# Altium footprint library SOIC127P600X170-9N.PcbLib: 1 footprints
Each footprint in its own frame and in the unit in brackets; x right, y up, seen from the top. Pads: shape width x height; smd on the part's side, far side on the other; paste and mask are expansions set on the pad; w line width, h text height; cw(c..) or ccw(c..) is an arc to the next point about the centre after c.
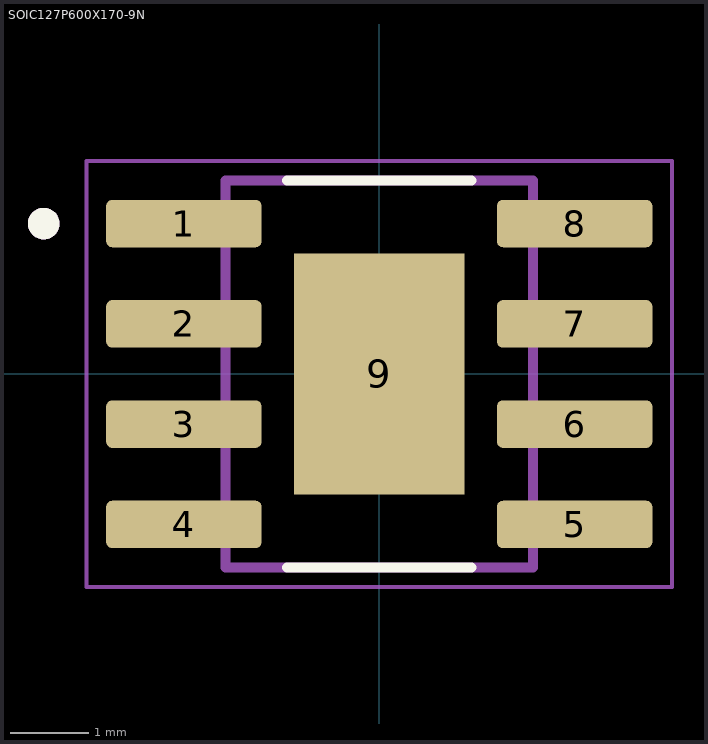
[diagram p0: the footprint, top view; thin cyan lines are the x and y axes]

## SOIC127P600X170-9N [mm]
height 1.7
pads (9):
  rrect25% 1.97x0.6 smd: 1(-2.475,1.905) 2(-2.475,0.635) 3(-2.475,-0.635) 4(-2.475,-1.905) 5(2.475,-1.905) 6(2.475,-0.635) 7(2.475,0.635) 8(2.475,1.905)
  rect 2.155x3.05 smd paste-3: 9(0,0)
Top Overlay:
  circle w0.2: c-4.25,1.905 r0.1
  lines w0.127: -1.17,-2.45 1.17,-2.45 ; -1.17,2.45 1.17,2.45
Top Paste:
  region: 0.681,-0.964 -0.681,-0.964 -0.681,0.964 0.681,0.964
Assembly Top:
  circle w0.2: c-4.25,1.905 r0.1
  lines w0.127: -1.95,-2.45 1.95,-2.45 1.95,2.45 -1.95,2.45 -1.95,-2.45
Courtyard Top:
  lines w0.05: -3.71,-2.7 3.71,-2.7 3.71,2.7 -3.71,2.7 -3.71,-2.7
3D body "step_temp.STEP": height 1.7, standoff 0, extent -3,-2.45 3,2.45